# Altium integrated library Linear Technology Operational Amplifiers (LT1000).IntLib: 2280 symbols (part 2 of 79)
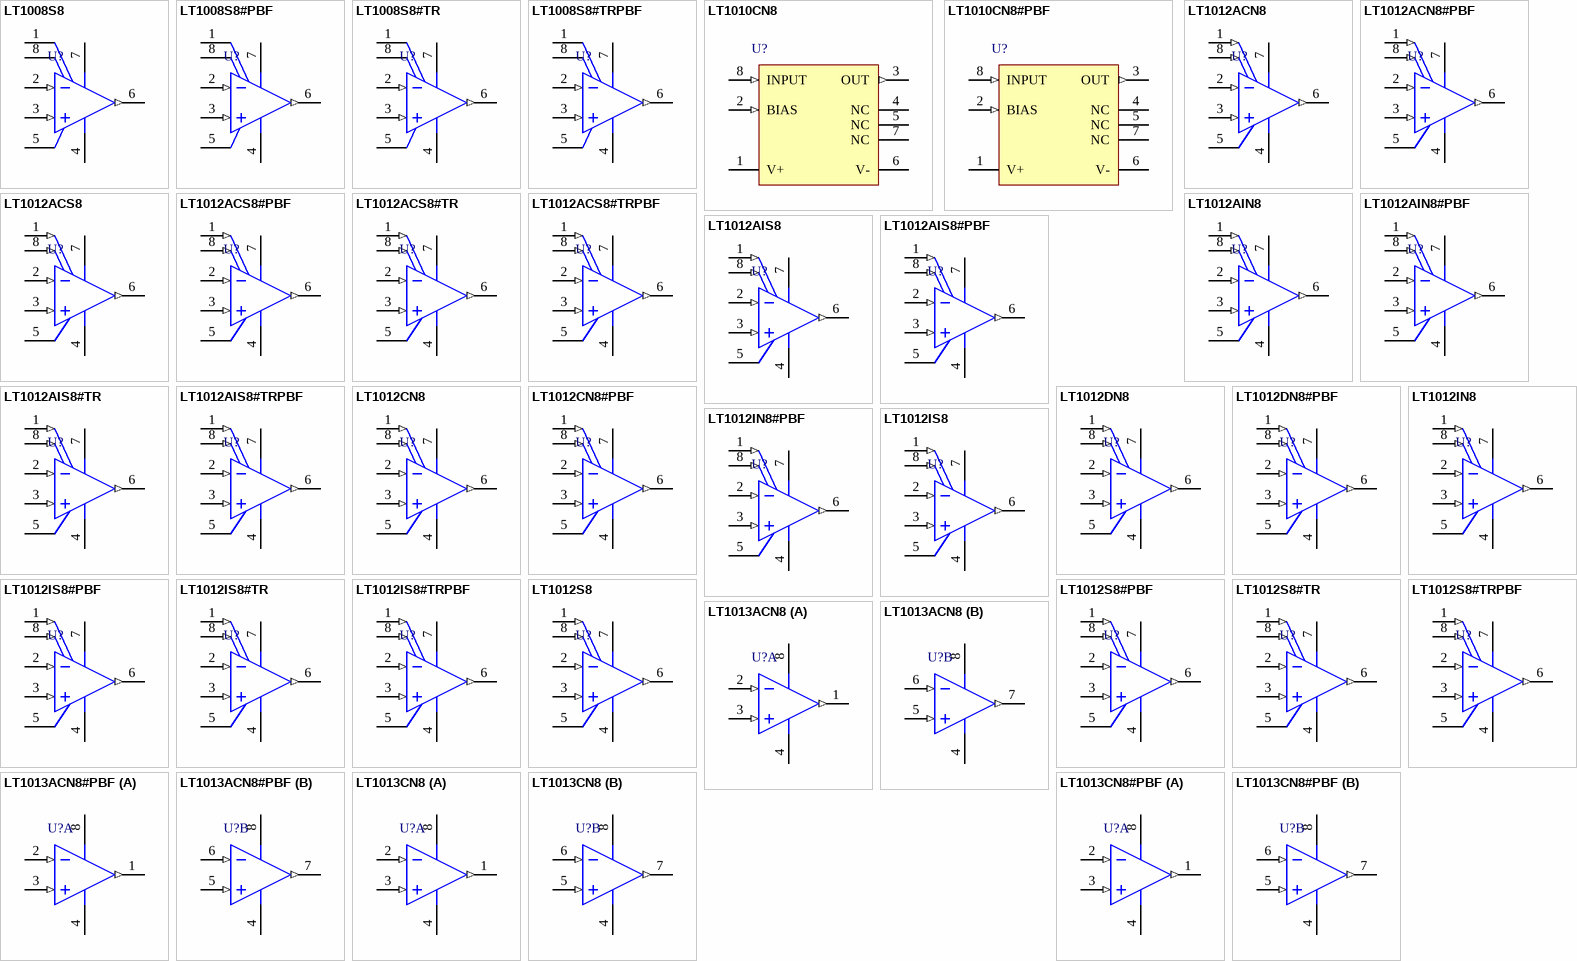
[diagram p106: symbols LT1008S8 to LT1013CN8#PBF]

## LT1008S8
designator U?
Single Channel, Low Bias Current, Externally Compensated Operational Amplifier, 1 MHz Typical GBW, 0.2 V/us Typical SR, 4 to 40 V, 8-Pin SOIC (S8-8), Commerical; Linear Technology Part Number: LT1008; Manufacturer: Linear Technology; PartNumber: LT1008S8; Channels (#): 1; Is (mA) Typical: 0.38; SR (V/us) Typical: 0.2; Vos (mV) Typical: 0.03; Vs Max (V): 40; Vs Min (V): 4; DatasheetVersion: Rev. B; PackageVersion: Rev G; PackageReference: LT-S8-8; PackageDescription: 8-Pin Plastic Small Outline, Body 4.9 x 3.9 mm, Pitch 1.27 mm; Supplier 1: Digi-Key; Supplier Part Number 1: LT1008S8-ND; GBW (MHz) Typical: 1; Type: VFB; Mounting Technology: Surface Mount; ComponentLink1Description: Manufacturer URL; ComponentLink1URL: http://www.linear.com/; ComponentLink2Description: Datasheet; ComponentLink2URL: http://cds.linear.com/docs/en/datasheet/1008fb.pdf; ComponentLink3Description: Package Specification; ComponentLink3URL: http://cds.linear.com/docs/en/packaging/05081610_G_SO8.pdf
footprint LT-S8-8_N (SOIC, 8-Leads, Body 4.9x3.9mm, Pitch 1.27mm, IPC Medium Density)
footprint LT-S8-8_L (SOIC, 8-Leads, Body 4.9x3.9mm, Pitch 1.27mm, IPC High Density)
footprint LT-S8-8_M (SOIC, 8-Leads, Body 4.9x3.9mm, Pitch 1.27mm, IPC Low Density)
pins: 1 COMP1, 2 -IN (in), 3 +IN (in), 4 V- (power), 5 NC, 6 OUT (out), 7 V+ (power), 8 COMP2

## LT1008S8#PBF
designator U?
Single Channel, Low Bias Current, Externally Compensated Operational Amplifier, 1 MHz Typical GBW, 0.2 V/us Typical SR, 4 to 40 V, 8-Pin SOIC (S8-8), Commerical, Pb-Free; Linear Technology Part Number: LT1008; Manufacturer: Linear Technology; PartNumber: LT1008S8#PBF; Channels (#): 1; Is (mA) Typical: 0.38; SR (V/us) Typical: 0.2; Vos (mV) Typical: 0.03; Vs Max (V): 40; Vs Min (V): 4; DatasheetVersion: Rev. B; PackageVersion: Rev G; PackageReference: LT-S8-8; PackageDescription: 8-Pin Plastic Small Outline, Body 4.9 x 3.9 mm, Pitch 1.27 mm; Supplier 1: Digi-Key; Supplier Part Number 1: LT1008S8#PBF-ND; Supplier 2: Farnell; Supplier Part Number 2: 2294671; Supplier 3: Newark; Supplier Part Number 3: 57M0746; GBW (MHz) Typical: 1; RoHS: Pb-Free; Type: VFB; Mounting Technology: Surface Mount; ComponentLink1Description: Manufacturer URL; ComponentLink1URL: http://www.linear.com/; ComponentLink2Description: Datasheet; ComponentLink2URL: http://cds.linear.com/docs/en/datasheet/1008fb.pdf; ComponentLink3Description: Package Specification; ComponentLink3URL: http://cds.linear.com/docs/en/packaging/05081610_G_SO8.pdf
footprint LT-S8-8_N (SOIC, 8-Leads, Body 4.9x3.9mm, Pitch 1.27mm, IPC Medium Density)
footprint LT-S8-8_L (SOIC, 8-Leads, Body 4.9x3.9mm, Pitch 1.27mm, IPC High Density)
footprint LT-S8-8_M (SOIC, 8-Leads, Body 4.9x3.9mm, Pitch 1.27mm, IPC Low Density)
pins: 1 COMP1, 2 -IN (in), 3 +IN (in), 4 V- (power), 5 NC, 6 OUT (out), 7 V+ (power), 8 COMP2

## LT1008S8#TR
designator U?
Single Channel, Low Bias Current, Externally Compensated Operational Amplifier, 1 MHz Typical GBW, 0.2 V/us Typical SR, 4 to 40 V, 8-Pin SOIC (S8-8), Commerical, Reel; Linear Technology Part Number: LT1008; Manufacturer: Linear Technology; PartNumber: LT1008S8#TR; Channels (#): 1; Is (mA) Typical: 0.38; SR (V/us) Typical: 0.2; Vos (mV) Typical: 0.03; Vs Max (V): 40; Vs Min (V): 4; DatasheetVersion: Rev. B; PackageVersion: Rev G; PackageReference: LT-S8-8; PackageDescription: 8-Pin Plastic Small Outline, Body 4.9 x 3.9 mm, Pitch 1.27 mm; Supplier 1: Digi-Key; Supplier Part Number 1: LT1008S8#TR-ND; GBW (MHz) Typical: 1; Packing: Reel; Type: VFB; Mounting Technology: Surface Mount; ComponentLink1Description: Manufacturer URL; ComponentLink1URL: http://www.linear.com/; ComponentLink2Description: Datasheet; ComponentLink2URL: http://cds.linear.com/docs/en/datasheet/1008fb.pdf; ComponentLink3Description: Package Specification; ComponentLink3URL: http://cds.linear.com/docs/en/packaging/05081610_G_SO8.pdf
footprint LT-S8-8_N (SOIC, 8-Leads, Body 4.9x3.9mm, Pitch 1.27mm, IPC Medium Density)
footprint LT-S8-8_L (SOIC, 8-Leads, Body 4.9x3.9mm, Pitch 1.27mm, IPC High Density)
footprint LT-S8-8_M (SOIC, 8-Leads, Body 4.9x3.9mm, Pitch 1.27mm, IPC Low Density)
pins: 1 COMP1, 2 -IN (in), 3 +IN (in), 4 V- (power), 5 NC, 6 OUT (out), 7 V+ (power), 8 COMP2

## LT1008S8#TRPBF
designator U?
Single Channel, Low Bias Current, Externally Compensated Operational Amplifier, 1 MHz Typical GBW, 0.2 V/us Typical SR, 4 to 40 V, 8-Pin SOIC (S8-8), Commerical, Pb-Free, Reel; Linear Technology Part Number: LT1008; Manufacturer: Linear Technology; PartNumber: LT1008S8#TRPBF; Channels (#): 1; Is (mA) Typical: 0.38; SR (V/us) Typical: 0.2; Vos (mV) Typical: 0.03; Vs Max (V): 40; Vs Min (V): 4; DatasheetVersion: Rev. B; PackageVersion: Rev G; PackageReference: LT-S8-8; PackageDescription: 8-Pin Plastic Small Outline, Body 4.9 x 3.9 mm, Pitch 1.27 mm; Supplier 1: Digi-Key; Supplier Part Number 1: LT1008S8#TRPBF-ND; GBW (MHz) Typical: 1; Packing: Reel; RoHS: Pb-Free; Type: VFB; Mounting Technology: Surface Mount; ComponentLink1Description: Manufacturer URL; ComponentLink1URL: http://www.linear.com/; ComponentLink2Description: Datasheet; ComponentLink2URL: http://cds.linear.com/docs/en/datasheet/1008fb.pdf; ComponentLink3Description: Package Specification; ComponentLink3URL: http://cds.linear.com/docs/en/packaging/05081610_G_SO8.pdf
footprint LT-S8-8_N (SOIC, 8-Leads, Body 4.9x3.9mm, Pitch 1.27mm, IPC Medium Density)
footprint LT-S8-8_L (SOIC, 8-Leads, Body 4.9x3.9mm, Pitch 1.27mm, IPC High Density)
footprint LT-S8-8_M (SOIC, 8-Leads, Body 4.9x3.9mm, Pitch 1.27mm, IPC Low Density)
pins: 1 COMP1, 2 -IN (in), 3 +IN (in), 4 V- (power), 5 NC, 6 OUT (out), 7 V+ (power), 8 COMP2

## LT1010CN8
designator U?
Single Channel, High Power High Speed Buffer Operational Amplifier, 30 MHz Typical GBW, 200 V/us Typical SR, 4.5 to 44 V, 8-Pin DIP (N8-8), Commerical; Linear Technology Part Number: LT1010; Manufacturer: Linear Technology; PartNumber: LT1010CN8; Channels (#): 1; GBW (MHz) Typical: 30; Is (mA) Typical: 5; SR (V/us) Typical: 200; Vos (mV) Typical: 70; Vs Max (V): 44; Vs Min (V): 4.5; DatasheetVersion: Rev. E; PackageVersion: Rev I; PackageReference: LT-N8-8; PackageDescription: 8-Lead PDIP, Body 10.16 x 6.48 mm, Pitch 2.54 mm; Supplier 1: Digi-Key; Supplier Part Number 1: LT1010CN8-ND; Supplier 2: Newark; Supplier Part Number 2: 57M0773; Type: BUF; Mounting Technology: Through Hole; ComponentLink1Description: Manufacturer URL; ComponentLink1URL: http://www.linear.com/; ComponentLink2Description: Datasheet; ComponentLink2URL: http://cds.linear.com/docs/en/datasheet/1010fe.pdf; ComponentLink3Description: Package Specification; ComponentLink3URL: http://cds.linear.com/docs/en/packaging/05081510_I_N8.pdf
footprint LT-N8-8 (DIP, 8-Leads, Body 10.16x6.48mm, Pitch 2.54mm)
pins: 1 V+ (power), 2 BIAS (in), 3 OUT (out), 4 NC, 5 NC, 6 V- (power), 7 NC, 8 INPUT (in)

## LT1010CN8#PBF
designator U?
Single Channel, High Power High Speed Buffer Operational Amplifier, 30 MHz Typical GBW, 200 V/us Typical SR, 4.5 to 44 V, 8-Pin DIP (N8-8), Commerical, Pb-Free; Linear Technology Part Number: LT1010; Manufacturer: Linear Technology; PartNumber: LT1010CN8#PBF; Channels (#): 1; GBW (MHz) Typical: 30; Is (mA) Typical: 5; SR (V/us) Typical: 200; Vos (mV) Typical: 70; Vs Max (V): 44; Vs Min (V): 4.5; DatasheetVersion: Rev. E; PackageVersion: Rev I; PackageReference: LT-N8-8; PackageDescription: 8-Lead PDIP, Body 10.16 x 6.48 mm, Pitch 2.54 mm; Supplier 1: Digi-Key; Supplier Part Number 1: LT1010CN8#PBF-ND; Supplier 2: Farnell; Supplier Part Number 2: 1663326; Supplier 3: Newark; Supplier Part Number 3: 57M0774; RoHS: Pb-Free; Type: BUF; Mounting Technology: Through Hole; ComponentLink1Description: Manufacturer URL; ComponentLink1URL: http://www.linear.com/; ComponentLink2Description: Datasheet; ComponentLink2URL: http://cds.linear.com/docs/en/datasheet/1010fe.pdf; ComponentLink3Description: Package Specification; ComponentLink3URL: http://cds.linear.com/docs/en/packaging/05081510_I_N8.pdf
footprint LT-N8-8 (DIP, 8-Leads, Body 10.16x6.48mm, Pitch 2.54mm)
pins: 1 V+ (power), 2 BIAS (in), 3 OUT (out), 4 NC, 5 NC, 6 V- (power), 7 NC, 8 INPUT (in)

## LT1012ACN8
designator U?
Single Channel, Low Vos Stable Operational Amplifier, 1 MHz Typical GBW, 0.2 V/us Typical SR, 2.4 to 40 V, 8-Pin DIP (N8-8), Commerical; Linear Technology Part Number: LT1012; Manufacturer: Linear Technology; PartNumber: LT1012ACN8; Channels (#): 1; Is (mA) Typical: 0.37; SR (V/us) Typical: 0.2; Vos (mV) Typical: 0.008; Vs Max (V): 40; Vs Min (V): 2.4; DatasheetVersion: Rev. B; PackageVersion: Rev I; PackageReference: LT-N8-8; PackageDescription: 8-Lead PDIP, Body 10.16 x 6.48 mm, Pitch 2.54 mm; Supplier 1: Digi-Key; Supplier Part Number 1: LT1012ACN8-ND; GBW (MHz) Typical: 1; Type: VFB; Mounting Technology: Through Hole; ComponentLink1Description: Manufacturer URL; ComponentLink1URL: http://www.linear.com/; ComponentLink2Description: Datasheet; ComponentLink2URL: http://cds.linear.com/docs/en/datasheet/1012afbs.pdf; ComponentLink3Description: Package Specification; ComponentLink3URL: http://cds.linear.com/docs/en/packaging/05081510_I_N8.pdf
footprint LT-N8-8 (DIP, 8-Leads, Body 10.16x6.48mm, Pitch 2.54mm)
pins: 1 VOS TRIM (in), 2 -IN (in), 3 +IN (in), 4 V- (power), 5 OVER COMP, 6 OUT (out), 7 V+ (power), 8 VOS TRIM (in)

## LT1012ACN8#PBF
designator U?
Single Channel, Low Vos Stable Operational Amplifier, 1 MHz Typical GBW, 0.2 V/us Typical SR, 2.4 to 40 V, 8-Pin DIP (N8-8), Commerical, Pb-Free; Linear Technology Part Number: LT1012; Manufacturer: Linear Technology; PartNumber: LT1012ACN8#PBF; Channels (#): 1; Is (mA) Typical: 0.37; SR (V/us) Typical: 0.2; Vos (mV) Typical: 0.008; Vs Max (V): 40; Vs Min (V): 2.4; DatasheetVersion: Rev. B; PackageVersion: Rev I; PackageReference: LT-N8-8; PackageDescription: 8-Lead PDIP, Body 10.16 x 6.48 mm, Pitch 2.54 mm; Supplier 1: Digi-Key; Supplier Part Number 1: LT1012ACN8#PBF-ND; Supplier 2: Newark; Supplier Part Number 2: 57M0795; GBW (MHz) Typical: 1; RoHS: Pb-Free; Type: VFB; Mounting Technology: Surface Mount; ComponentLink1Description: Manufacturer URL; ComponentLink1URL: http://www.linear.com/; ComponentLink2Description: Datasheet; ComponentLink2URL: http://cds.linear.com/docs/en/datasheet/1012afbs.pdf; ComponentLink3Description: Package Specification; ComponentLink3URL: http://cds.linear.com/docs/en/packaging/05081510_I_N8.pdf
footprint LT-N8-8 (DIP, 8-Leads, Body 10.16x6.48mm, Pitch 2.54mm)
pins: 1 VOS TRIM (in), 2 -IN (in), 3 +IN (in), 4 V- (power), 5 OVER COMP, 6 OUT (out), 7 V+ (power), 8 VOS TRIM (in)

## LT1012ACS8
designator U?
Single Channel, Low Vos Stable Operational Amplifier, 1 MHz Typical GBW, 0.2 V/us Typical SR, 2.4 to 40 V, 8-Pin SOIC (S8-8), Commerical; Linear Technology Part Number: LT1012; Manufacturer: Linear Technology; PartNumber: LT1012ACS8; Channels (#): 1; Is (mA) Typical: 0.37; SR (V/us) Typical: 0.2; Vos (mV) Typical: 0.008; Vs Max (V): 40; Vs Min (V): 2.4; DatasheetVersion: Rev. B; PackageVersion: Rev G; PackageReference: LT-S8-8; PackageDescription: 8-Pin Plastic Small Outline, Body 4.9 x 3.9 mm, Pitch 1.27 mm; Supplier 1: Digi-Key; Supplier Part Number 1: LT1012ACS8-ND; Supplier 2: Newark; Supplier Part Number 2: 57M0796; GBW (MHz) Typical: 1; Type: VFB; Mounting Technology: Surface Mount; ComponentLink1Description: Manufacturer URL; ComponentLink1URL: http://www.linear.com/; ComponentLink2Description: Datasheet; ComponentLink2URL: http://cds.linear.com/docs/en/datasheet/1012afbs.pdf; ComponentLink3Description: Package Specification; ComponentLink3URL: http://cds.linear.com/docs/en/packaging/05081610_G_SO8.pdf
footprint LT-S8-8_N (SOIC, 8-Leads, Body 4.9x3.9mm, Pitch 1.27mm, IPC Medium Density)
footprint LT-S8-8_L (SOIC, 8-Leads, Body 4.9x3.9mm, Pitch 1.27mm, IPC High Density)
footprint LT-S8-8_M (SOIC, 8-Leads, Body 4.9x3.9mm, Pitch 1.27mm, IPC Low Density)
pins: 1 VOS TRIM (in), 2 -IN (in), 3 +IN (in), 4 V- (power), 5 OVER COMP, 6 OUT (out), 7 V+ (power), 8 VOS TRIM (in)

## LT1012ACS8#PBF
designator U?
Single Channel, Low Vos Stable Operational Amplifier, 1 MHz Typical GBW, 0.2 V/us Typical SR, 2.4 to 40 V, 8-Pin SOIC (S8-8), Commerical, Pb-Free; Linear Technology Part Number: LT1012; Manufacturer: Linear Technology; PartNumber: LT1012ACS8#PBF; Channels (#): 1; Is (mA) Typical: 0.37; SR (V/us) Typical: 0.2; Vos (mV) Typical: 0.008; Vs Max (V): 40; Vs Min (V): 2.4; DatasheetVersion: Rev. B; PackageVersion: Rev G; PackageReference: LT-S8-8; PackageDescription: 8-Pin Plastic Small Outline, Body 4.9 x 3.9 mm, Pitch 1.27 mm; Supplier 1: Digi-Key; Supplier Part Number 1: LT1012ACS8#PBF-ND; Supplier 2: Newark; Supplier Part Number 2: 57M0797; GBW (MHz) Typical: 1; RoHS: Pb-Free; Type: VFB; Mounting Technology: Surface Mount; ComponentLink1Description: Manufacturer URL; ComponentLink1URL: http://www.linear.com/; ComponentLink2Description: Datasheet; ComponentLink2URL: http://cds.linear.com/docs/en/datasheet/1012afbs.pdf; ComponentLink3Description: Package Specification; ComponentLink3URL: http://cds.linear.com/docs/en/packaging/05081610_G_SO8.pdf
footprint LT-S8-8_N (SOIC, 8-Leads, Body 4.9x3.9mm, Pitch 1.27mm, IPC Medium Density)
footprint LT-S8-8_L (SOIC, 8-Leads, Body 4.9x3.9mm, Pitch 1.27mm, IPC High Density)
footprint LT-S8-8_M (SOIC, 8-Leads, Body 4.9x3.9mm, Pitch 1.27mm, IPC Low Density)
pins: 1 VOS TRIM (in), 2 -IN (in), 3 +IN (in), 4 V- (power), 5 OVER COMP, 6 OUT (out), 7 V+ (power), 8 VOS TRIM (in)

## LT1012ACS8#TR
designator U?
Single Channel, Low Vos Stable Operational Amplifier, 1 MHz Typical GBW, 0.2 V/us Typical SR, 2.4 to 40 V, 8-Pin SOIC (S8-8), Commerical, Reel; Linear Technology Part Number: LT1012; Manufacturer: Linear Technology; PartNumber: LT1012ACS8#TR; Channels (#): 1; Is (mA) Typical: 0.37; SR (V/us) Typical: 0.2; Vos (mV) Typical: 0.008; Vs Max (V): 40; Vs Min (V): 2.4; DatasheetVersion: Rev. B; PackageVersion: Rev G; PackageReference: LT-S8-8; PackageDescription: 8-Pin Plastic Small Outline, Body 4.9 x 3.9 mm, Pitch 1.27 mm; Supplier 1: Digi-Key; Supplier Part Number 1: LT1012ACS8#TR-ND; GBW (MHz) Typical: 1; Packing: Reel; Type: VFB; Mounting Technology: Surface Mount; ComponentLink1Description: Manufacturer URL; ComponentLink1URL: http://www.linear.com/; ComponentLink2Description: Datasheet; ComponentLink2URL: http://cds.linear.com/docs/en/datasheet/1012afbs.pdf; ComponentLink3Description: Package Specification; ComponentLink3URL: http://cds.linear.com/docs/en/packaging/05081610_G_SO8.pdf
footprint LT-S8-8_N (SOIC, 8-Leads, Body 4.9x3.9mm, Pitch 1.27mm, IPC Medium Density)
footprint LT-S8-8_L (SOIC, 8-Leads, Body 4.9x3.9mm, Pitch 1.27mm, IPC High Density)
footprint LT-S8-8_M (SOIC, 8-Leads, Body 4.9x3.9mm, Pitch 1.27mm, IPC Low Density)
pins: 1 VOS TRIM (in), 2 -IN (in), 3 +IN (in), 4 V- (power), 5 OVER COMP, 6 OUT (out), 7 V+ (power), 8 VOS TRIM (in)

## LT1012ACS8#TRPBF
designator U?
Single Channel, Low Vos Stable Operational Amplifier, 1 MHz Typical GBW, 0.2 V/us Typical SR, 2.4 to 40 V, 8-Pin SOIC (S8-8), Commerical, Pb-Free, Reel; Linear Technology Part Number: LT1012; Manufacturer: Linear Technology; PartNumber: LT1012ACS8#TRPBF; Channels (#): 1; Is (mA) Typical: 0.37; SR (V/us) Typical: 0.2; Vos (mV) Typical: 0.008; Vs Max (V): 40; Vs Min (V): 2.4; DatasheetVersion: Rev. B; PackageVersion: Rev G; PackageReference: LT-S8-8; PackageDescription: 8-Pin Plastic Small Outline, Body 4.9 x 3.9 mm, Pitch 1.27 mm; Supplier 1: Digi-Key; Supplier Part Number 1: LT1012ACS8#TRPBF-ND; GBW (MHz) Typical: 1; Packing: Reel; RoHS: Pb-Free; Type: VFB; Mounting Technology: Surface Mount; ComponentLink1Description: Manufacturer URL; ComponentLink1URL: http://www.linear.com/; ComponentLink2Description: Datasheet; ComponentLink2URL: http://cds.linear.com/docs/en/datasheet/1012afbs.pdf; ComponentLink3Description: Package Specification; ComponentLink3URL: http://cds.linear.com/docs/en/packaging/05081610_G_SO8.pdf
footprint LT-S8-8_N (SOIC, 8-Leads, Body 4.9x3.9mm, Pitch 1.27mm, IPC Medium Density)
footprint LT-S8-8_L (SOIC, 8-Leads, Body 4.9x3.9mm, Pitch 1.27mm, IPC High Density)
footprint LT-S8-8_M (SOIC, 8-Leads, Body 4.9x3.9mm, Pitch 1.27mm, IPC Low Density)
pins: 1 VOS TRIM (in), 2 -IN (in), 3 +IN (in), 4 V- (power), 5 OVER COMP, 6 OUT (out), 7 V+ (power), 8 VOS TRIM (in)

## LT1012AIN8
designator U?
Single Channel, Low Vos Stable Operational Amplifier, 1 MHz Typical GBW, 0.2 V/us Typical SR, 2.4 to 40 V, 8-Pin DIP (N8-8), Industrial; Linear Technology Part Number: LT1012; Manufacturer: Linear Technology; PartNumber: LT1012AIN8; Channels (#): 1; Is (mA) Typical: 0.37; SR (V/us) Typical: 0.2; Vos (mV) Typical: 0.008; Vs Max (V): 40; Vs Min (V): 2.4; DatasheetVersion: Rev. B; PackageVersion: Rev I; PackageReference: LT-N8-8; PackageDescription: 8-Lead PDIP, Body 10.16 x 6.48 mm, Pitch 2.54 mm; Supplier 1: Digi-Key; Supplier Part Number 1: LT1012AIN8-ND; Supplier 2: Newark; Supplier Part Number 2: 57M0800; GBW (MHz) Typical: 1; Type: VFB; Mounting Technology: Through Hole; ComponentLink1Description: Manufacturer URL; ComponentLink1URL: http://www.linear.com/; ComponentLink2Description: Datasheet; ComponentLink2URL: http://cds.linear.com/docs/en/datasheet/1012afbs.pdf; ComponentLink3Description: Package Specification; ComponentLink3URL: http://cds.linear.com/docs/en/packaging/05081510_I_N8.pdf
footprint LT-N8-8 (DIP, 8-Leads, Body 10.16x6.48mm, Pitch 2.54mm)
pins: 1 VOS TRIM (in), 2 -IN (in), 3 +IN (in), 4 V- (power), 5 OVER COMP, 6 OUT (out), 7 V+ (power), 8 VOS TRIM (in)

## LT1012AIN8#PBF
designator U?
Single Channel, Low Vos Stable Operational Amplifier, 1 MHz Typical GBW, 0.2 V/us Typical SR, 2.4 to 40 V, 8-Pin DIP (N8-8), Industrial, Pb-Free; Linear Technology Part Number: LT1012; Manufacturer: Linear Technology; PartNumber: LT1012AIN8#PBF; Channels (#): 1; Is (mA) Typical: 0.37; SR (V/us) Typical: 0.2; Vos (mV) Typical: 0.008; Vs Max (V): 40; Vs Min (V): 2.4; DatasheetVersion: Rev. B; PackageVersion: Rev I; PackageReference: LT-N8-8; PackageDescription: 8-Lead PDIP, Body 10.16 x 6.48 mm, Pitch 2.54 mm; Supplier 1: Digi-Key; Supplier Part Number 1: LT1012AIN8#PBF-ND; Supplier 2: Newark; Supplier Part Number 2: 57M0801; GBW (MHz) Typical: 1; RoHS: Pb-Free; Type: VFB; Mounting Technology: Surface Mount; ComponentLink1Description: Manufacturer URL; ComponentLink1URL: http://www.linear.com/; ComponentLink2Description: Datasheet; ComponentLink2URL: http://cds.linear.com/docs/en/datasheet/1012afbs.pdf; ComponentLink3Description: Package Specification; ComponentLink3URL: http://cds.linear.com/docs/en/packaging/05081510_I_N8.pdf
footprint LT-N8-8 (DIP, 8-Leads, Body 10.16x6.48mm, Pitch 2.54mm)
pins: 1 VOS TRIM (in), 2 -IN (in), 3 +IN (in), 4 V- (power), 5 OVER COMP, 6 OUT (out), 7 V+ (power), 8 VOS TRIM (in)

## LT1012AIS8
designator U?
Single Channel, Low Vos Stable Operational Amplifier, 1 MHz Typical GBW, 0.2 V/us Typical SR, 2.4 to 40 V, 8-Pin SOIC (S8-8), Industrial; Linear Technology Part Number: LT1012; Manufacturer: Linear Technology; PartNumber: LT1012AIS8; Channels (#): 1; Is (mA) Typical: 0.37; SR (V/us) Typical: 0.2; Vos (mV) Typical: 0.008; Vs Max (V): 40; Vs Min (V): 2.4; DatasheetVersion: Rev. B; PackageVersion: Rev G; PackageReference: LT-S8-8; PackageDescription: 8-Pin Plastic Small Outline, Body 4.9 x 3.9 mm, Pitch 1.27 mm; Supplier 1: Digi-Key; Supplier Part Number 1: LT1012AIS8-ND; GBW (MHz) Typical: 1; Type: VFB; Mounting Technology: Surface Mount; ComponentLink1Description: Manufacturer URL; ComponentLink1URL: http://www.linear.com/; ComponentLink2Description: Datasheet; ComponentLink2URL: http://cds.linear.com/docs/en/datasheet/1012afbs.pdf; ComponentLink3Description: Package Specification; ComponentLink3URL: http://cds.linear.com/docs/en/packaging/05081610_G_SO8.pdf
footprint LT-S8-8_N (SOIC, 8-Leads, Body 4.9x3.9mm, Pitch 1.27mm, IPC Medium Density)
footprint LT-S8-8_L (SOIC, 8-Leads, Body 4.9x3.9mm, Pitch 1.27mm, IPC High Density)
footprint LT-S8-8_M (SOIC, 8-Leads, Body 4.9x3.9mm, Pitch 1.27mm, IPC Low Density)
pins: 1 VOS TRIM (in), 2 -IN (in), 3 +IN (in), 4 V- (power), 5 OVER COMP, 6 OUT (out), 7 V+ (power), 8 VOS TRIM (in)

## LT1012AIS8#PBF
designator U?
Single Channel, Low Vos Stable Operational Amplifier, 1 MHz Typical GBW, 0.2 V/us Typical SR, 2.4 to 40 V, 8-Pin SOIC (S8-8), Industrial, Pb-Free; Linear Technology Part Number: LT1012; Manufacturer: Linear Technology; PartNumber: LT1012AIS8#PBF; Channels (#): 1; Is (mA) Typical: 0.37; SR (V/us) Typical: 0.2; Vos (mV) Typical: 0.008; Vs Max (V): 40; Vs Min (V): 2.4; DatasheetVersion: Rev. B; PackageVersion: Rev G; PackageReference: LT-S8-8; PackageDescription: 8-Pin Plastic Small Outline, Body 4.9 x 3.9 mm, Pitch 1.27 mm; Supplier 1: Digi-Key; Supplier Part Number 1: LT1012AIS8#PBF-ND; Supplier 2: Farnell; Supplier Part Number 2: 2211379; Supplier 3: Newark; Supplier Part Number 3: 57M0803; GBW (MHz) Typical: 1; RoHS: Pb-Free; Type: VFB; Mounting Technology: Surface Mount; ComponentLink1Description: Manufacturer URL; ComponentLink1URL: http://www.linear.com/; ComponentLink2Description: Datasheet; ComponentLink2URL: http://cds.linear.com/docs/en/datasheet/1012afbs.pdf; ComponentLink3Description: Package Specification; ComponentLink3URL: http://cds.linear.com/docs/en/packaging/05081610_G_SO8.pdf
footprint LT-S8-8_N (SOIC, 8-Leads, Body 4.9x3.9mm, Pitch 1.27mm, IPC Medium Density)
footprint LT-S8-8_L (SOIC, 8-Leads, Body 4.9x3.9mm, Pitch 1.27mm, IPC High Density)
footprint LT-S8-8_M (SOIC, 8-Leads, Body 4.9x3.9mm, Pitch 1.27mm, IPC Low Density)
pins: 1 VOS TRIM (in), 2 -IN (in), 3 +IN (in), 4 V- (power), 5 OVER COMP, 6 OUT (out), 7 V+ (power), 8 VOS TRIM (in)

## LT1012AIS8#TR
designator U?
Single Channel, Low Vos Stable Operational Amplifier, 1 MHz Typical GBW, 0.2 V/us Typical SR, 2.4 to 40 V, 8-Pin SOIC (S8-8), Industrial, Reel; Linear Technology Part Number: LT1012; Manufacturer: Linear Technology; PartNumber: LT1012AIS8#TR; Channels (#): 1; Is (mA) Typical: 0.37; SR (V/us) Typical: 0.2; Vos (mV) Typical: 0.008; Vs Max (V): 40; Vs Min (V): 2.4; DatasheetVersion: Rev. B; PackageVersion: Rev G; PackageReference: LT-S8-8; PackageDescription: 8-Pin Plastic Small Outline, Body 4.9 x 3.9 mm, Pitch 1.27 mm; Supplier 1: Digi-Key; Supplier Part Number 1: LT1012AIS8#TR-ND; GBW (MHz) Typical: 1; Packing: Reel; Type: VFB; Mounting Technology: Surface Mount; ComponentLink1Description: Manufacturer URL; ComponentLink1URL: http://www.linear.com/; ComponentLink2Description: Datasheet; ComponentLink2URL: http://cds.linear.com/docs/en/datasheet/1012afbs.pdf; ComponentLink3Description: Package Specification; ComponentLink3URL: http://cds.linear.com/docs/en/packaging/05081610_G_SO8.pdf
footprint LT-S8-8_N (SOIC, 8-Leads, Body 4.9x3.9mm, Pitch 1.27mm, IPC Medium Density)
footprint LT-S8-8_L (SOIC, 8-Leads, Body 4.9x3.9mm, Pitch 1.27mm, IPC High Density)
footprint LT-S8-8_M (SOIC, 8-Leads, Body 4.9x3.9mm, Pitch 1.27mm, IPC Low Density)
pins: 1 VOS TRIM (in), 2 -IN (in), 3 +IN (in), 4 V- (power), 5 OVER COMP, 6 OUT (out), 7 V+ (power), 8 VOS TRIM (in)

## LT1012AIS8#TRPBF
designator U?
Single Channel, Low Vos Stable Operational Amplifier, 1 MHz Typical GBW, 0.2 V/us Typical SR, 2.4 to 40 V, 8-Pin SOIC (S8-8), Industrial, Pb-Free, Reel; Linear Technology Part Number: LT1012; Manufacturer: Linear Technology; PartNumber: LT1012AIS8#TRPBF; Channels (#): 1; Is (mA) Typical: 0.37; SR (V/us) Typical: 0.2; Vos (mV) Typical: 0.008; Vs Max (V): 40; Vs Min (V): 2.4; DatasheetVersion: Rev. B; PackageVersion: Rev G; PackageReference: LT-S8-8; PackageDescription: 8-Pin Plastic Small Outline, Body 4.9 x 3.9 mm, Pitch 1.27 mm; Supplier 1: Digi-Key; Supplier Part Number 1: LT1012AIS8#TRPBF-ND; GBW (MHz) Typical: 1; Packing: Reel; RoHS: Pb-Free; Type: VFB; Mounting Technology: Surface Mount; ComponentLink1Description: Manufacturer URL; ComponentLink1URL: http://www.linear.com/; ComponentLink2Description: Datasheet; ComponentLink2URL: http://cds.linear.com/docs/en/datasheet/1012afbs.pdf; ComponentLink3Description: Package Specification; ComponentLink3URL: http://cds.linear.com/docs/en/packaging/05081610_G_SO8.pdf
footprint LT-S8-8_N (SOIC, 8-Leads, Body 4.9x3.9mm, Pitch 1.27mm, IPC Medium Density)
footprint LT-S8-8_L (SOIC, 8-Leads, Body 4.9x3.9mm, Pitch 1.27mm, IPC High Density)
footprint LT-S8-8_M (SOIC, 8-Leads, Body 4.9x3.9mm, Pitch 1.27mm, IPC Low Density)
pins: 1 VOS TRIM (in), 2 -IN (in), 3 +IN (in), 4 V- (power), 5 OVER COMP, 6 OUT (out), 7 V+ (power), 8 VOS TRIM (in)

## LT1012CN8
designator U?
Single Channel, Low Vos Stable Operational Amplifier, 1 MHz Typical GBW, 0.2 V/us Typical SR, 2.4 to 40 V, 8-Pin DIP (N8-8), Commerical; Linear Technology Part Number: LT1012; Manufacturer: Linear Technology; PartNumber: LT1012CN8; Channels (#): 1; Is (mA) Typical: 0.37; SR (V/us) Typical: 0.2; Vos (mV) Typical: 0.008; Vs Max (V): 40; Vs Min (V): 2.4; DatasheetVersion: Rev. B; PackageVersion: Rev I; PackageReference: LT-N8-8; PackageDescription: 8-Lead PDIP, Body 10.16 x 6.48 mm, Pitch 2.54 mm; Supplier 1: Digi-Key; Supplier Part Number 1: LT1012CN8-ND; GBW (MHz) Typical: 1; Type: VFB; Mounting Technology: Through Hole; ComponentLink1Description: Manufacturer URL; ComponentLink1URL: http://www.linear.com/; ComponentLink2Description: Datasheet; ComponentLink2URL: http://cds.linear.com/docs/en/datasheet/1012afbs.pdf; ComponentLink3Description: Package Specification; ComponentLink3URL: http://cds.linear.com/docs/en/packaging/05081510_I_N8.pdf
footprint LT-N8-8 (DIP, 8-Leads, Body 10.16x6.48mm, Pitch 2.54mm)
pins: 1 VOS TRIM (in), 2 -IN (in), 3 +IN (in), 4 V- (power), 5 OVER COMP, 6 OUT (out), 7 V+ (power), 8 VOS TRIM (in)

## LT1012CN8#PBF
designator U?
Single Channel, Low Vos Stable Operational Amplifier, 1 MHz Typical GBW, 0.2 V/us Typical SR, 2.4 to 40 V, 8-Pin DIP (N8-8), Commerical, Pb-Free; Linear Technology Part Number: LT1012; Manufacturer: Linear Technology; PartNumber: LT1012CN8#PBF; Channels (#): 1; Is (mA) Typical: 0.37; SR (V/us) Typical: 0.2; Vos (mV) Typical: 0.008; Vs Max (V): 40; Vs Min (V): 2.4; DatasheetVersion: Rev. B; PackageVersion: Rev I; PackageReference: LT-N8-8; PackageDescription: 8-Lead PDIP, Body 10.16 x 6.48 mm, Pitch 2.54 mm; Supplier 1: Digi-Key; Supplier Part Number 1: LT1012CN8#PBF-ND; Supplier 2: Farnell; Supplier Part Number 2: 2211380; Supplier 3: Newark; Supplier Part Number 3: 57M0807; GBW (MHz) Typical: 1; RoHS: Pb-Free; Type: VFB; Mounting Technology: Through Hole; ComponentLink1Description: Manufacturer URL; ComponentLink1URL: http://www.linear.com/; ComponentLink2Description: Datasheet; ComponentLink2URL: http://cds.linear.com/docs/en/datasheet/1012afbs.pdf; ComponentLink3Description: Package Specification; ComponentLink3URL: http://cds.linear.com/docs/en/packaging/05081510_I_N8.pdf
footprint LT-N8-8 (DIP, 8-Leads, Body 10.16x6.48mm, Pitch 2.54mm)
pins: 1 VOS TRIM (in), 2 -IN (in), 3 +IN (in), 4 V- (power), 5 OVER COMP, 6 OUT (out), 7 V+ (power), 8 VOS TRIM (in)

## LT1012DN8
designator U?
Single Channel, Low Vos Stable Operational Amplifier, 1 MHz Typical GBW, 0.2 V/us Typical SR, 2.4 to 40 V, 8-Pin DIP (N8-8), Commerical; Linear Technology Part Number: LT1012; Manufacturer: Linear Technology; PartNumber: LT1012DN8; Channels (#): 1; Is (mA) Typical: 0.37; SR (V/us) Typical: 0.2; Vos (mV) Typical: 0.008; Vs Max (V): 40; Vs Min (V): 2.4; DatasheetVersion: Rev. B; PackageVersion: Rev I; PackageReference: LT-N8-8; PackageDescription: 8-Lead PDIP, Body 10.16 x 6.48 mm, Pitch 2.54 mm; Supplier 1: Digi-Key; Supplier Part Number 1: LT1012DN8-ND; GBW (MHz) Typical: 1; Type: VFB; Mounting Technology: Through Hole; ComponentLink1Description: Manufacturer URL; ComponentLink1URL: http://www.linear.com/; ComponentLink2Description: Datasheet; ComponentLink2URL: http://cds.linear.com/docs/en/datasheet/1012afbs.pdf; ComponentLink3Description: Package Specification; ComponentLink3URL: http://cds.linear.com/docs/en/packaging/05081510_I_N8.pdf
footprint LT-N8-8 (DIP, 8-Leads, Body 10.16x6.48mm, Pitch 2.54mm)
pins: 1 VOS TRIM (in), 2 -IN (in), 3 +IN (in), 4 V- (power), 5 OVER COMP, 6 OUT (out), 7 V+ (power), 8 VOS TRIM (in)

## LT1012DN8#PBF
designator U?
Single Channel, Low Vos Stable Operational Amplifier, 1 MHz Typical GBW, 0.2 V/us Typical SR, 2.4 to 40 V, 8-Pin DIP (N8-8), Commerical, Pb-Free; Linear Technology Part Number: LT1012; Manufacturer: Linear Technology; PartNumber: LT1012DN8#PBF; Channels (#): 1; Is (mA) Typical: 0.37; SR (V/us) Typical: 0.2; Vos (mV) Typical: 0.008; Vs Max (V): 40; Vs Min (V): 2.4; DatasheetVersion: Rev. B; PackageVersion: Rev I; PackageReference: LT-N8-8; PackageDescription: 8-Lead PDIP, Body 10.16 x 6.48 mm, Pitch 2.54 mm; Supplier 1: Digi-Key; Supplier Part Number 1: LT1012DN8#PBF-ND; GBW (MHz) Typical: 1; RoHS: Pb-Free; Type: VFB; Mounting Technology: Through Hole; ComponentLink1Description: Manufacturer URL; ComponentLink1URL: http://www.linear.com/; ComponentLink2Description: Datasheet; ComponentLink2URL: http://cds.linear.com/docs/en/datasheet/1012afbs.pdf; ComponentLink3Description: Package Specification; ComponentLink3URL: http://cds.linear.com/docs/en/packaging/05081510_I_N8.pdf
footprint LT-N8-8 (DIP, 8-Leads, Body 10.16x6.48mm, Pitch 2.54mm)
pins: 1 VOS TRIM (in), 2 -IN (in), 3 +IN (in), 4 V- (power), 5 OVER COMP, 6 OUT (out), 7 V+ (power), 8 VOS TRIM (in)

## LT1012IN8
designator U?
Single Channel, Low Vos Stable Operational Amplifier, 1 MHz Typical GBW, 0.2 V/us Typical SR, 2.4 to 40 V, 8-Pin DIP (N8-8), Industrial; Linear Technology Part Number: LT1012; Manufacturer: Linear Technology; PartNumber: LT1012IN8; Channels (#): 1; Is (mA) Typical: 0.37; SR (V/us) Typical: 0.2; Vos (mV) Typical: 0.008; Vs Max (V): 40; Vs Min (V): 2.4; DatasheetVersion: Rev. B; PackageVersion: Rev I; PackageReference: LT-N8-8; PackageDescription: 8-Lead PDIP, Body 10.16 x 6.48 mm, Pitch 2.54 mm; Supplier 1: Digi-Key; Supplier Part Number 1: LT1012IN8-ND; GBW (MHz) Typical: 1; Type: VFB; Mounting Technology: Surface Mount; ComponentLink1Description: Manufacturer URL; ComponentLink1URL: http://www.linear.com/; ComponentLink2Description: Datasheet; ComponentLink2URL: http://cds.linear.com/docs/en/datasheet/1012afbs.pdf; ComponentLink3Description: Package Specification; ComponentLink3URL: http://cds.linear.com/docs/en/packaging/05081510_I_N8.pdf
footprint LT-N8-8 (DIP, 8-Leads, Body 10.16x6.48mm, Pitch 2.54mm)
pins: 1 VOS TRIM (in), 2 -IN (in), 3 +IN (in), 4 V- (power), 5 OVER COMP, 6 OUT (out), 7 V+ (power), 8 VOS TRIM (in)

## LT1012IN8#PBF
designator U?
Single Channel, Low Vos Stable Operational Amplifier, 1 MHz Typical GBW, 0.2 V/us Typical SR, 2.4 to 40 V, 8-Pin DIP (N8-8), Industrial, Pb-Free; Linear Technology Part Number: LT1012; Manufacturer: Linear Technology; PartNumber: LT1012IN8#PBF; Channels (#): 1; Is (mA) Typical: 0.37; SR (V/us) Typical: 0.2; Vos (mV) Typical: 0.008; Vs Max (V): 40; Vs Min (V): 2.4; DatasheetVersion: Rev. B; PackageVersion: Rev I; PackageReference: LT-N8-8; PackageDescription: 8-Lead PDIP, Body 10.16 x 6.48 mm, Pitch 2.54 mm; Supplier 1: Digi-Key; Supplier Part Number 1: LT1012IN8#PBF-ND; GBW (MHz) Typical: 1; RoHS: Pb-Free; Type: VFB; Mounting Technology: Through Hole; ComponentLink1Description: Manufacturer URL; ComponentLink1URL: http://www.linear.com/; ComponentLink2Description: Datasheet; ComponentLink2URL: http://cds.linear.com/docs/en/datasheet/1012afbs.pdf; ComponentLink3Description: Package Specification; ComponentLink3URL: http://cds.linear.com/docs/en/packaging/05081510_I_N8.pdf
footprint LT-N8-8 (DIP, 8-Leads, Body 10.16x6.48mm, Pitch 2.54mm)
pins: 1 VOS TRIM (in), 2 -IN (in), 3 +IN (in), 4 V- (power), 5 OVER COMP, 6 OUT (out), 7 V+ (power), 8 VOS TRIM (in)

## LT1012IS8
designator U?
Single Channel, Low Vos Stable Operational Amplifier, 1 MHz Typical GBW, 0.2 V/us Typical SR, 2.4 to 40 V, 8-Pin SOIC (S8-8), Industrial; Linear Technology Part Number: LT1012; Manufacturer: Linear Technology; PartNumber: LT1012IS8; Channels (#): 1; Is (mA) Typical: 0.37; SR (V/us) Typical: 0.2; Vos (mV) Typical: 0.008; Vs Max (V): 40; Vs Min (V): 2.4; DatasheetVersion: Rev. B; PackageVersion: Rev G; PackageReference: LT-S8-8; PackageDescription: 8-Pin Plastic Small Outline, Body 4.9 x 3.9 mm, Pitch 1.27 mm; Supplier 1: Digi-Key; Supplier Part Number 1: LT1012IS8-ND; GBW (MHz) Typical: 1; Type: VFB; Mounting Technology: Surface Mount; ComponentLink1Description: Manufacturer URL; ComponentLink1URL: http://www.linear.com/; ComponentLink2Description: Datasheet; ComponentLink2URL: http://cds.linear.com/docs/en/datasheet/1012afbs.pdf; ComponentLink3Description: Package Specification; ComponentLink3URL: http://cds.linear.com/docs/en/packaging/05081610_G_SO8.pdf
footprint LT-S8-8_N (SOIC, 8-Leads, Body 4.9x3.9mm, Pitch 1.27mm, IPC Medium Density)
footprint LT-S8-8_L (SOIC, 8-Leads, Body 4.9x3.9mm, Pitch 1.27mm, IPC High Density)
footprint LT-S8-8_M (SOIC, 8-Leads, Body 4.9x3.9mm, Pitch 1.27mm, IPC Low Density)
pins: 1 VOS TRIM (in), 2 -IN (in), 3 +IN (in), 4 V- (power), 5 OVER COMP, 6 OUT (out), 7 V+ (power), 8 VOS TRIM (in)

## LT1012IS8#PBF
designator U?
Single Channel, Low Vos Stable Operational Amplifier, 1 MHz Typical GBW, 0.2 V/us Typical SR, 2.4 to 40 V, 8-Pin SOIC (S8-8), Industrial, Pb-Free; Linear Technology Part Number: LT1012; Manufacturer: Linear Technology; PartNumber: LT1012IS8#PBF; Channels (#): 1; Is (mA) Typical: 0.37; SR (V/us) Typical: 0.2; Vos (mV) Typical: 0.008; Vs Max (V): 40; Vs Min (V): 2.4; DatasheetVersion: Rev. B; PackageVersion: Rev G; PackageReference: LT-S8-8; PackageDescription: 8-Pin Plastic Small Outline, Body 4.9 x 3.9 mm, Pitch 1.27 mm; Supplier 1: Digi-Key; Supplier Part Number 1: LT1012IS8#PBF-ND; GBW (MHz) Typical: 1; RoHS: Pb-Free; Type: VFB; Mounting Technology: Surface Mount; ComponentLink1Description: Manufacturer URL; ComponentLink1URL: http://www.linear.com/; ComponentLink2Description: Datasheet; ComponentLink2URL: http://cds.linear.com/docs/en/datasheet/1012afbs.pdf; ComponentLink3Description: Package Specification; ComponentLink3URL: http://cds.linear.com/docs/en/packaging/05081610_G_SO8.pdf
footprint LT-S8-8_N (SOIC, 8-Leads, Body 4.9x3.9mm, Pitch 1.27mm, IPC Medium Density)
footprint LT-S8-8_L (SOIC, 8-Leads, Body 4.9x3.9mm, Pitch 1.27mm, IPC High Density)
footprint LT-S8-8_M (SOIC, 8-Leads, Body 4.9x3.9mm, Pitch 1.27mm, IPC Low Density)
pins: 1 VOS TRIM (in), 2 -IN (in), 3 +IN (in), 4 V- (power), 5 OVER COMP, 6 OUT (out), 7 V+ (power), 8 VOS TRIM (in)

## LT1012IS8#TR
designator U?
Single Channel, Low Vos Stable Operational Amplifier, 1 MHz Typical GBW, 0.2 V/us Typical SR, 2.4 to 40 V, 8-Pin SOIC (S8-8), Industrial, Reel; Linear Technology Part Number: LT1012; Manufacturer: Linear Technology; PartNumber: LT1012IS8#TR; Channels (#): 1; Is (mA) Typical: 0.37; SR (V/us) Typical: 0.2; Vos (mV) Typical: 0.008; Vs Max (V): 40; Vs Min (V): 2.4; DatasheetVersion: Rev. B; PackageVersion: Rev G; PackageReference: LT-S8-8; PackageDescription: 8-Pin Plastic Small Outline, Body 4.9 x 3.9 mm, Pitch 1.27 mm; Supplier 1: Digi-Key; Supplier Part Number 1: LT1012IS8#TR-ND; GBW (MHz) Typical: 1; Packing: Reel; Type: VFB; Mounting Technology: Surface Mount; ComponentLink1Description: Manufacturer URL; ComponentLink1URL: http://www.linear.com/; ComponentLink2Description: Datasheet; ComponentLink2URL: http://cds.linear.com/docs/en/datasheet/1012afbs.pdf; ComponentLink3Description: Package Specification; ComponentLink3URL: http://cds.linear.com/docs/en/packaging/05081610_G_SO8.pdf
footprint LT-S8-8_N (SOIC, 8-Leads, Body 4.9x3.9mm, Pitch 1.27mm, IPC Medium Density)
footprint LT-S8-8_L (SOIC, 8-Leads, Body 4.9x3.9mm, Pitch 1.27mm, IPC High Density)
footprint LT-S8-8_M (SOIC, 8-Leads, Body 4.9x3.9mm, Pitch 1.27mm, IPC Low Density)
pins: 1 VOS TRIM (in), 2 -IN (in), 3 +IN (in), 4 V- (power), 5 OVER COMP, 6 OUT (out), 7 V+ (power), 8 VOS TRIM (in)

## LT1012IS8#TRPBF
designator U?
Single Channel, Low Vos Stable Operational Amplifier, 1 MHz Typical GBW, 0.2 V/us Typical SR, 2.4 to 40 V, 8-Pin SOIC (S8-8), Industrial, Pb-Free, Reel; Linear Technology Part Number: LT1012; Manufacturer: Linear Technology; PartNumber: LT1012IS8#TRPBF; Channels (#): 1; Is (mA) Typical: 0.37; SR (V/us) Typical: 0.2; Vos (mV) Typical: 0.008; Vs Max (V): 40; Vs Min (V): 2.4; DatasheetVersion: Rev. B; PackageVersion: Rev G; PackageReference: LT-S8-8; PackageDescription: 8-Pin Plastic Small Outline, Body 4.9 x 3.9 mm, Pitch 1.27 mm; Supplier 1: Digi-Key; Supplier Part Number 1: LT1012IS8#TRPBF-ND; GBW (MHz) Typical: 1; Packing: Reel; RoHS: Pb-Free; Type: VFB; Mounting Technology: Surface Mount; ComponentLink1Description: Manufacturer URL; ComponentLink1URL: http://www.linear.com/; ComponentLink2Description: Datasheet; ComponentLink2URL: http://cds.linear.com/docs/en/datasheet/1012afbs.pdf; ComponentLink3Description: Package Specification; ComponentLink3URL: http://cds.linear.com/docs/en/packaging/05081610_G_SO8.pdf
footprint LT-S8-8_N (SOIC, 8-Leads, Body 4.9x3.9mm, Pitch 1.27mm, IPC Medium Density)
footprint LT-S8-8_L (SOIC, 8-Leads, Body 4.9x3.9mm, Pitch 1.27mm, IPC High Density)
footprint LT-S8-8_M (SOIC, 8-Leads, Body 4.9x3.9mm, Pitch 1.27mm, IPC Low Density)
pins: 1 VOS TRIM (in), 2 -IN (in), 3 +IN (in), 4 V- (power), 5 OVER COMP, 6 OUT (out), 7 V+ (power), 8 VOS TRIM (in)

## LT1012S8
designator U?
Single Channel, Low Vos Stable Operational Amplifier, 1 MHz Typical GBW, 0.2 V/us Typical SR, 2.4 to 40 V, 8-Pin SOIC (S8-8), Commerical; Linear Technology Part Number: LT1012; Manufacturer: Linear Technology; PartNumber: LT1012S8; Channels (#): 1; Is (mA) Typical: 0.37; SR (V/us) Typical: 0.2; Vos (mV) Typical: 0.008; Vs Max (V): 40; Vs Min (V): 2.4; DatasheetVersion: Rev. B; PackageVersion: Rev G; PackageReference: LT-S8-8; PackageDescription: 8-Pin Plastic Small Outline, Body 4.9 x 3.9 mm, Pitch 1.27 mm; Supplier 1: Digi-Key; Supplier Part Number 1: LT1012S8-ND; GBW (MHz) Typical: 1; Type: VFB; Mounting Technology: Surface Mount; ComponentLink1Description: Manufacturer URL; ComponentLink1URL: http://www.linear.com/; ComponentLink2Description: Datasheet; ComponentLink2URL: http://cds.linear.com/docs/en/datasheet/1012afbs.pdf; ComponentLink3Description: Package Specification; ComponentLink3URL: http://cds.linear.com/docs/en/packaging/05081610_G_SO8.pdf
footprint LT-S8-8_N (SOIC, 8-Leads, Body 4.9x3.9mm, Pitch 1.27mm, IPC Medium Density)
footprint LT-S8-8_L (SOIC, 8-Leads, Body 4.9x3.9mm, Pitch 1.27mm, IPC High Density)
footprint LT-S8-8_M (SOIC, 8-Leads, Body 4.9x3.9mm, Pitch 1.27mm, IPC Low Density)
pins: 1 VOS TRIM (in), 2 -IN (in), 3 +IN (in), 4 V- (power), 5 OVER COMP, 6 OUT (out), 7 V+ (power), 8 VOS TRIM (in)

## LT1012S8#PBF
designator U?
Single Channel, Low Vos Stable Operational Amplifier, 1 MHz Typical GBW, 0.2 V/us Typical SR, 2.4 to 40 V, 8-Pin SOIC (S8-8), Commerical, Pb-Free; Linear Technology Part Number: LT1012; Manufacturer: Linear Technology; PartNumber: LT1012S8#PBF; Channels (#): 1; Is (mA) Typical: 0.37; SR (V/us) Typical: 0.2; Vos (mV) Typical: 0.008; Vs Max (V): 40; Vs Min (V): 2.4; DatasheetVersion: Rev. B; PackageVersion: Rev G; PackageReference: LT-S8-8; PackageDescription: 8-Pin Plastic Small Outline, Body 4.9 x 3.9 mm, Pitch 1.27 mm; Supplier 1: Digi-Key; Supplier Part Number 1: LT1012S8#PBF-ND; Supplier 2: Farnell; Supplier Part Number 2: 1330564; Supplier 3: Newark; Supplier Part Number 3: 57M0817; GBW (MHz) Typical: 1; RoHS: Pb-Free; Type: VFB; Mounting Technology: Surface Mount; ComponentLink1Description: Manufacturer URL; ComponentLink1URL: http://www.linear.com/; ComponentLink2Description: Datasheet; ComponentLink2URL: http://cds.linear.com/docs/en/datasheet/1012afbs.pdf; ComponentLink3Description: Package Specification; ComponentLink3URL: http://cds.linear.com/docs/en/packaging/05081610_G_SO8.pdf
footprint LT-S8-8_N (SOIC, 8-Leads, Body 4.9x3.9mm, Pitch 1.27mm, IPC Medium Density)
footprint LT-S8-8_L (SOIC, 8-Leads, Body 4.9x3.9mm, Pitch 1.27mm, IPC High Density)
footprint LT-S8-8_M (SOIC, 8-Leads, Body 4.9x3.9mm, Pitch 1.27mm, IPC Low Density)
pins: 1 VOS TRIM (in), 2 -IN (in), 3 +IN (in), 4 V- (power), 5 OVER COMP, 6 OUT (out), 7 V+ (power), 8 VOS TRIM (in)

## LT1012S8#TR
designator U?
Single Channel, Low Vos Stable Operational Amplifier, 1 MHz Typical GBW, 0.2 V/us Typical SR, 2.4 to 40 V, 8-Pin SOIC (S8-8), Commerical, Reel; Linear Technology Part Number: LT1012; Manufacturer: Linear Technology; PartNumber: LT1012S8#TR; Channels (#): 1; Is (mA) Typical: 0.37; SR (V/us) Typical: 0.2; Vos (mV) Typical: 0.008; Vs Max (V): 40; Vs Min (V): 2.4; DatasheetVersion: Rev. B; PackageVersion: Rev G; PackageReference: LT-S8-8; PackageDescription: 8-Pin Plastic Small Outline, Body 4.9 x 3.9 mm, Pitch 1.27 mm; Supplier 1: Digi-Key; Supplier Part Number 1: LT1012S8#TR-ND; GBW (MHz) Typical: 1; Packing: Reel; Type: VFB; Mounting Technology: Surface Mount; ComponentLink1Description: Manufacturer URL; ComponentLink1URL: http://www.linear.com/; ComponentLink2Description: Datasheet; ComponentLink2URL: http://cds.linear.com/docs/en/datasheet/1012afbs.pdf; ComponentLink3Description: Package Specification; ComponentLink3URL: http://cds.linear.com/docs/en/packaging/05081610_G_SO8.pdf
footprint LT-S8-8_N (SOIC, 8-Leads, Body 4.9x3.9mm, Pitch 1.27mm, IPC Medium Density)
footprint LT-S8-8_L (SOIC, 8-Leads, Body 4.9x3.9mm, Pitch 1.27mm, IPC High Density)
footprint LT-S8-8_M (SOIC, 8-Leads, Body 4.9x3.9mm, Pitch 1.27mm, IPC Low Density)
pins: 1 VOS TRIM (in), 2 -IN (in), 3 +IN (in), 4 V- (power), 5 OVER COMP, 6 OUT (out), 7 V+ (power), 8 VOS TRIM (in)

## LT1012S8#TRPBF
designator U?
Single Channel, Low Vos Stable Operational Amplifier, 1 MHz Typical GBW, 0.2 V/us Typical SR, 2.4 to 40 V, 8-Pin SOIC (S8-8), Commerical, Pb-Free, Reel; Linear Technology Part Number: LT1012; Manufacturer: Linear Technology; PartNumber: LT1012S8#TRPBF; Channels (#): 1; Is (mA) Typical: 0.37; SR (V/us) Typical: 0.2; Vos (mV) Typical: 0.008; Vs Max (V): 40; Vs Min (V): 2.4; DatasheetVersion: Rev. B; PackageVersion: Rev G; PackageReference: LT-S8-8; PackageDescription: 8-Pin Plastic Small Outline, Body 4.9 x 3.9 mm, Pitch 1.27 mm; Supplier 1: Digi-Key; Supplier Part Number 1: LT1012S8#TRPBF-ND; Supplier 2: Newark; Supplier Part Number 2: 57M0819; GBW (MHz) Typical: 1; Packing: Reel; RoHS: Pb-Free; Type: VFB; Mounting Technology: Surface Mount; ComponentLink1Description: Manufacturer URL; ComponentLink1URL: http://www.linear.com/; ComponentLink2Description: Datasheet; ComponentLink2URL: http://cds.linear.com/docs/en/datasheet/1012afbs.pdf; ComponentLink3Description: Package Specification; ComponentLink3URL: http://cds.linear.com/docs/en/packaging/05081610_G_SO8.pdf
footprint LT-S8-8_N (SOIC, 8-Leads, Body 4.9x3.9mm, Pitch 1.27mm, IPC Medium Density)
footprint LT-S8-8_L (SOIC, 8-Leads, Body 4.9x3.9mm, Pitch 1.27mm, IPC High Density)
footprint LT-S8-8_M (SOIC, 8-Leads, Body 4.9x3.9mm, Pitch 1.27mm, IPC Low Density)
pins: 1 VOS TRIM (in), 2 -IN (in), 3 +IN (in), 4 V- (power), 5 OVER COMP, 6 OUT (out), 7 V+ (power), 8 VOS TRIM (in)

## LT1013ACN8
designator U?
Dual Channel, Precision Single Supply Operational Amplifier, 0.8 MHz Typical GBW, 0.4 V/us Typical SR, 4 to 44 V, 8-Pin DIP (N8-8), Commerical; Linear Technology Part Number: LT1013; Manufacturer: Linear Technology; PartNumber: LT1013ACN8; Channels (#): 2; GBW (MHz) Typical: 0.8; Is (mA) Typical: 0.35; SR (V/us) Typical: 0.4; Vos (mV) Typical: 0.04; Vs Max (V): 44; Vs Min (V): 4; DatasheetVersion: Rev. D; PackageVersion: Rev I; PackageReference: LT-N8-8; PackageDescription: 8-Lead PDIP, Body 10.16 x 6.48 mm, Pitch 2.54 mm; Supplier 1: Digi-Key; Supplier Part Number 1: LT1013ACN8-ND; Supplier 2: Newark; Supplier Part Number 2: 57M0820; Type: VFB; Mounting Technology: Through Hole; ComponentLink1Description: Manufacturer URL; ComponentLink1URL: http://www.linear.com/; ComponentLink2Description: Datasheet; ComponentLink2URL: http://cds.linear.com/docs/en/datasheet/10134fd.pdf; ComponentLink3Description: Package Specification; ComponentLink3URL: http://cds.linear.com/docs/en/packaging/05081510_I_N8.pdf
footprint LT-N8-8 (DIP, 8-Leads, Body 10.16x6.48mm, Pitch 2.54mm)
pins on every part: 4 V- (power), 8 V+ (power)
part A pins: 1 OUTPUT A (out), 2 -IN A (in), 3 +IN A (in)
part B pins: 5 +IN B (in), 6 -IN B (in), 7 OUTPUT B (out)

## LT1013ACN8#PBF
designator U?
Dual Channel, Precision Single Supply Operational Amplifier, 0.8 MHz Typical GBW, 0.4 V/us Typical SR, 4 to 44 V, 8-Pin DIP (N8-8), Commerical, Pb-Free; Linear Technology Part Number: LT1013; Manufacturer: Linear Technology; PartNumber: LT1013ACN8#PBF; Channels (#): 2; GBW (MHz) Typical: 0.8; Is (mA) Typical: 0.35; SR (V/us) Typical: 0.4; Vos (mV) Typical: 0.04; Vs Max (V): 44; Vs Min (V): 4; DatasheetVersion: Rev. D; PackageVersion: Rev I; PackageReference: LT-N8-8; PackageDescription: 8-Lead PDIP, Body 10.16 x 6.48 mm, Pitch 2.54 mm; Supplier 1: Digi-Key; Supplier Part Number 1: LT1013ACN8#PBF-ND; Supplier 2: Farnell; Supplier Part Number 2: 2211381; Supplier 3: Newark; Supplier Part Number 3: 57M0821; RoHS: Pb-Free; Type: VFB; Mounting Technology: Through Hole; ComponentLink1Description: Manufacturer URL; ComponentLink1URL: http://www.linear.com/; ComponentLink2Description: Datasheet; ComponentLink2URL: http://cds.linear.com/docs/en/datasheet/10134fd.pdf; ComponentLink3Description: Package Specification; ComponentLink3URL: http://cds.linear.com/docs/en/packaging/05081510_I_N8.pdf
footprint LT-N8-8 (DIP, 8-Leads, Body 10.16x6.48mm, Pitch 2.54mm)
pins on every part: 4 V- (power), 8 V+ (power)
part A pins: 1 OUTPUT A (out), 2 -IN A (in), 3 +IN A (in)
part B pins: 5 +IN B (in), 6 -IN B (in), 7 OUTPUT B (out)

## LT1013CN8
designator U?
Dual Channel, Precision Single Supply Operational Amplifier, 0.8 MHz Typical GBW, 0.4 V/us Typical SR, 4 to 44 V, 8-Pin DIP (N8-8), Commerical; Linear Technology Part Number: LT1013; Manufacturer: Linear Technology; PartNumber: LT1013CN8; Channels (#): 2; GBW (MHz) Typical: 0.8; Is (mA) Typical: 0.35; SR (V/us) Typical: 0.4; Vos (mV) Typical: 0.04; Vs Max (V): 44; Vs Min (V): 4; DatasheetVersion: Rev. D; PackageVersion: Rev I; PackageReference: LT-N8-8; PackageDescription: 8-Lead PDIP, Body 10.16 x 6.48 mm, Pitch 2.54 mm; Supplier 1: Digi-Key; Supplier Part Number 1: LT1013CN8-ND; Supplier 2: Newark; Supplier Part Number 2: 57M0822; Type: VFB; Mounting Technology: Through Hole; ComponentLink1Description: Manufacturer URL; ComponentLink1URL: http://www.linear.com/; ComponentLink2Description: Datasheet; ComponentLink2URL: http://cds.linear.com/docs/en/datasheet/10134fd.pdf; ComponentLink3Description: Package Specification; ComponentLink3URL: http://cds.linear.com/docs/en/packaging/05081510_I_N8.pdf
footprint LT-N8-8 (DIP, 8-Leads, Body 10.16x6.48mm, Pitch 2.54mm)
pins on every part: 4 V- (power), 8 V+ (power)
part A pins: 1 OUTPUT A (out), 2 -IN A (in), 3 +IN A (in)
part B pins: 5 +IN B (in), 6 -IN B (in), 7 OUTPUT B (out)

## LT1013CN8#PBF
designator U?
Dual Channel, Precision Single Supply Operational Amplifier, 0.8 MHz Typical GBW, 0.4 V/us Typical SR, 4 to 44 V, 8-Pin DIP (N8-8), Commerical, Pb-Free; Linear Technology Part Number: LT1013; Manufacturer: Linear Technology; PartNumber: LT1013CN8#PBF; Channels (#): 2; GBW (MHz) Typical: 0.8; Is (mA) Typical: 0.35; SR (V/us) Typical: 0.4; Vos (mV) Typical: 0.04; Vs Max (V): 44; Vs Min (V): 4; DatasheetVersion: Rev. D; PackageVersion: Rev I; PackageReference: LT-N8-8; PackageDescription: 8-Lead PDIP, Body 10.16 x 6.48 mm, Pitch 2.54 mm; Supplier 1: Digi-Key; Supplier Part Number 1: LT1013CN8#PBF-ND; Supplier 2: Farnell; Supplier Part Number 2: 9559280; Supplier 3: Newark; Supplier Part Number 3: 57M0823; RoHS: Pb-Free; Type: VFB; Mounting Technology: Through Hole; ComponentLink1Description: Manufacturer URL; ComponentLink1URL: http://www.linear.com/; ComponentLink2Description: Datasheet; ComponentLink2URL: http://cds.linear.com/docs/en/datasheet/10134fd.pdf; ComponentLink3Description: Package Specification; ComponentLink3URL: http://cds.linear.com/docs/en/packaging/05081510_I_N8.pdf
footprint LT-N8-8 (DIP, 8-Leads, Body 10.16x6.48mm, Pitch 2.54mm)
pins on every part: 4 V- (power), 8 V+ (power)
part A pins: 1 OUTPUT A (out), 2 -IN A (in), 3 +IN A (in)
part B pins: 5 +IN B (in), 6 -IN B (in), 7 OUTPUT B (out)

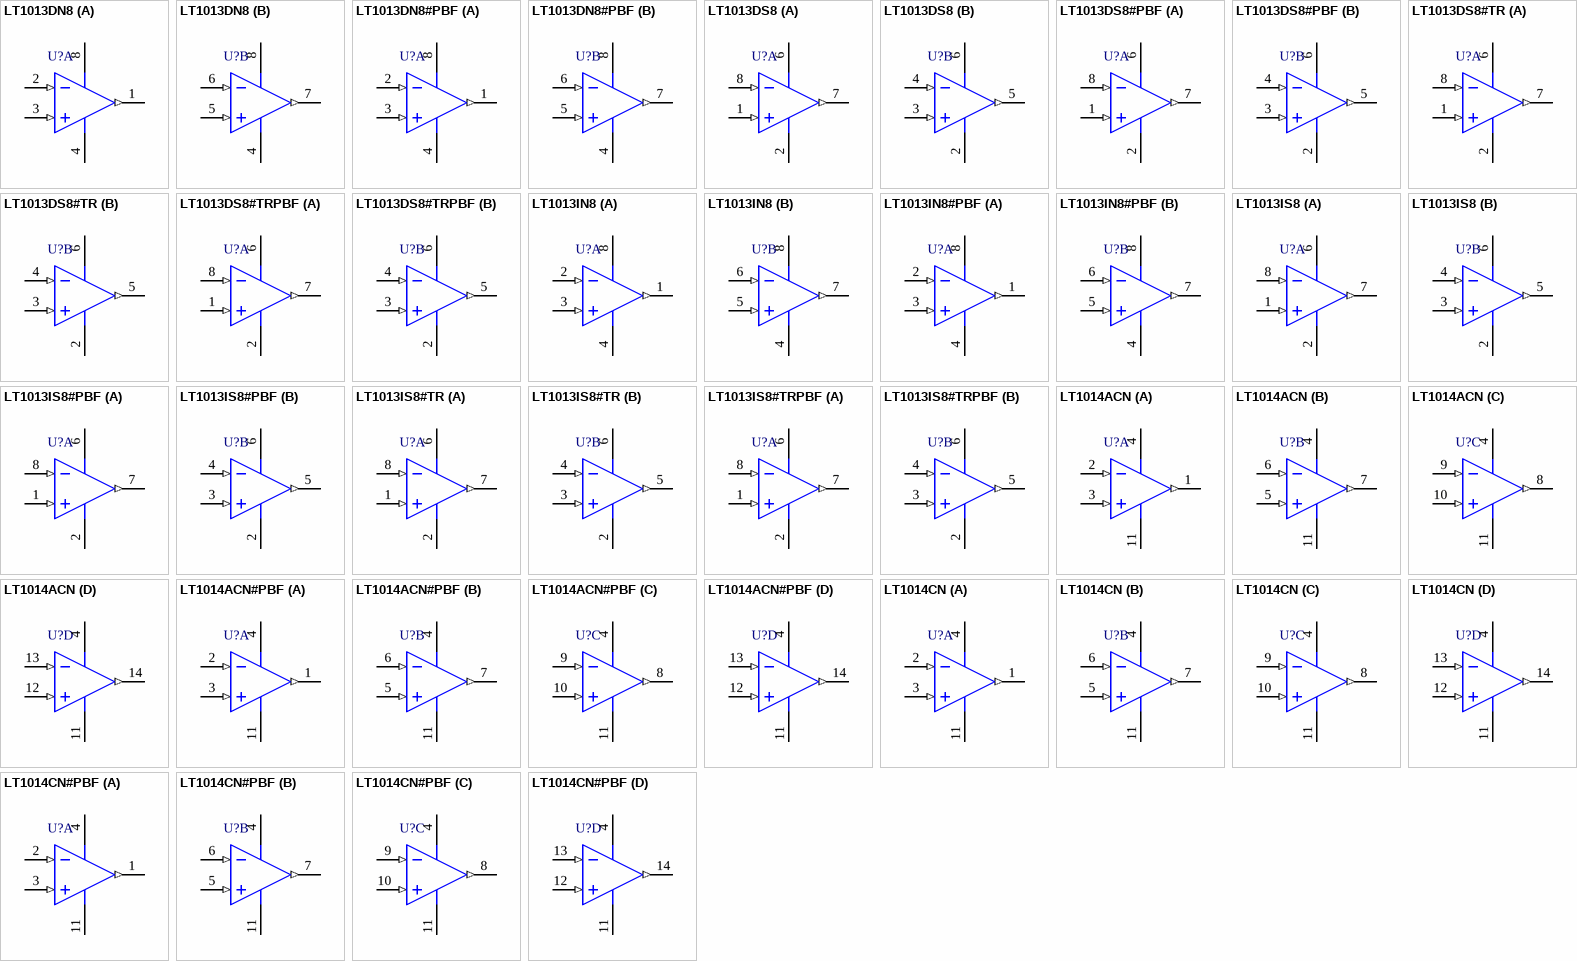
[diagram p2: symbols LT1013DN8 to LT1014CN#PBF]

## LT1013DN8
designator U?
Dual Channel, Precision Single Supply Operational Amplifier, 0.8 MHz Typical GBW, 0.4 V/us Typical SR, 4 to 44 V, 8-Pin DIP (N8-8), Commerical; Linear Technology Part Number: LT1013; Manufacturer: Linear Technology; PartNumber: LT1013DN8; Channels (#): 2; GBW (MHz) Typical: 0.8; Is (mA) Typical: 0.35; SR (V/us) Typical: 0.4; Vos (mV) Typical: 0.04; Vs Max (V): 44; Vs Min (V): 4; DatasheetVersion: Rev. D; PackageVersion: Rev I; PackageReference: LT-N8-8; PackageDescription: 8-Lead PDIP, Body 10.16 x 6.48 mm, Pitch 2.54 mm; Supplier 1: Digi-Key; Supplier Part Number 1: LT1013DN8-ND; Type: VFB; Mounting Technology: Through Hole; ComponentLink1Description: Manufacturer URL; ComponentLink1URL: http://www.linear.com/; ComponentLink2Description: Datasheet; ComponentLink2URL: http://cds.linear.com/docs/en/datasheet/10134fd.pdf; ComponentLink3Description: Package Specification; ComponentLink3URL: http://cds.linear.com/docs/en/packaging/05081510_I_N8.pdf
footprint LT-N8-8 (DIP, 8-Leads, Body 10.16x6.48mm, Pitch 2.54mm)
pins on every part: 4 V- (power), 8 V+ (power)
part A pins: 1 OUTPUT A (out), 2 -IN A (in), 3 +IN A (in)
part B pins: 5 +IN B (in), 6 -IN B (in), 7 OUTPUT B (out)